# Altium footprint library RECOM_RKE_H.PcbLib: 1 footprints
Each footprint in its own frame and in the unit in brackets; x right, y up, seen from the top. Pads: shape width x height; smd on the part's side, far side on the other; paste and mask are expansions set on the pad; w line width, h text height; cw(c..) or ccw(c..) is an arc to the next point about the centre after c.
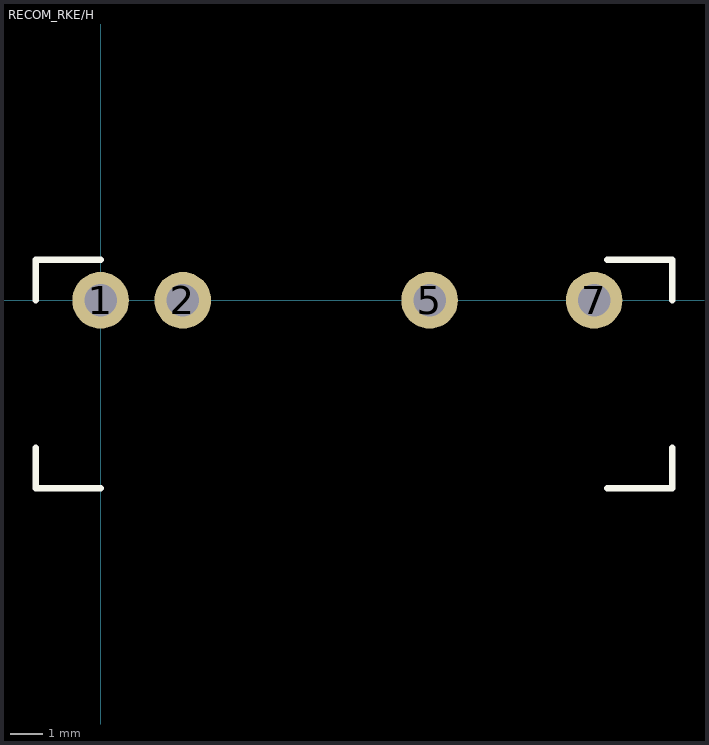
[diagram p0: the footprint, top view; thin cyan lines are the x and y axes]

## RECOM_RKE/H [mm] "Recom DC-DC Converter"
pads (4):
  round 1.75 hole 1: 1(0,0) 2(2.54,0) 5(10.16,0) 7(15.24,0)
Top Overlay:
  lines w0.2: -2,-4.55 -2,-5.8 0,-5.8 ; -2,0 -2,1.25 0,1.25 ; 15.65,-5.8 17.65,-5.8 17.65,-4.55 ; 15.65,1.25 17.65,1.25 17.65,0
3D body: height 10.2, standoff 0, extent -2,-5.8 17.65,1.25
3D body: height 0.25, standoff -2.8, extent -2.05,-1.25 -2.05,-1.25
3D body: height 0.25, standoff -2.8, extent -2.05,-1.25 -2.05,-1.25